# Altium footprint library Crystals_packages.PcbLib: 1 footprints
Each footprint in its own frame and in the unit in brackets; x right, y up, seen from the top. Pads: shape width x height; smd on the part's side, far side on the other; paste and mask are expansions set on the pad; w line width, h text height; cw(c..) or ccw(c..) is an arc to the next point about the centre after c.
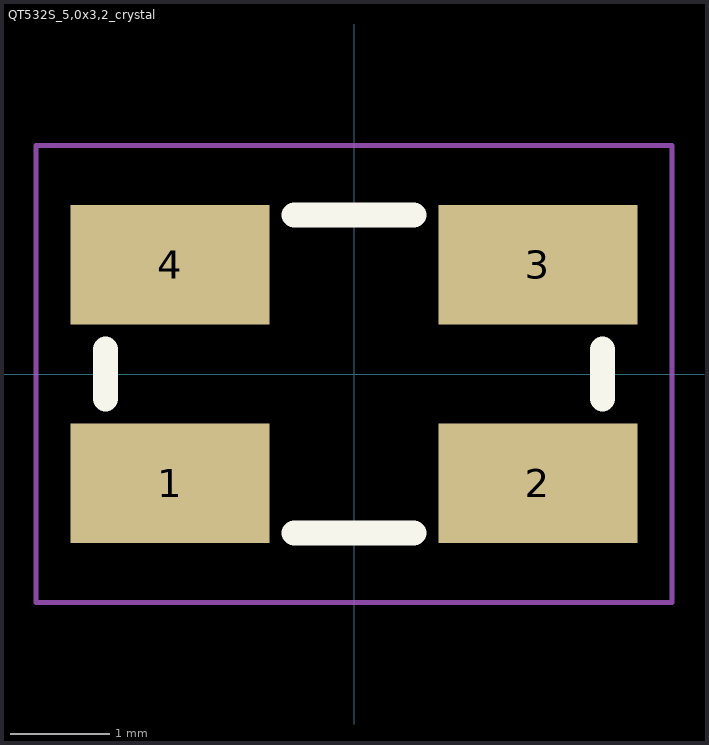
[diagram p0: the footprint, top view; thin cyan lines are the x and y axes]

## QT532S_5,0x3,2_crystal [mm]
pads (4):
  rect 2x1.2 smd: 1(-1.85,-1.1) 2(1.85,-1.1) 3(1.85,1.1) 4(-1.85,1.1)
Top Overlay:
  lines w0.254: -2.5,-0.25 -2.5,0.25 ; -0.6,-1.6 0.6,-1.6 ; -0.6,1.6 0.6,1.6 ; 2.5,-0.25 2.5,0.25
Mechanical 15:
  lines w0.05: -3.2,-2.3 3.2,-2.3 3.2,2.3 -3.2,2.3 -3.2,-2.3
3D body: height 0.9, standoff 0, extent -2.54,-1.651 2.54,1.651